# EAGLE library part DECADE-H1102NL (library DECADE-libraries)
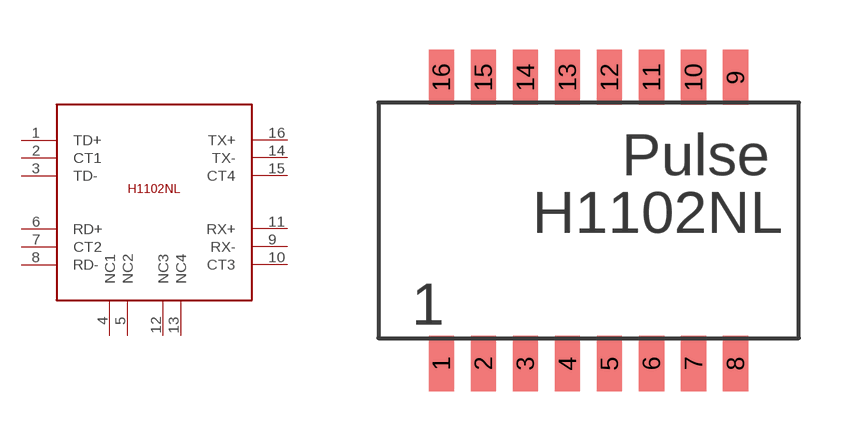
[diagram p28: symbol with the pads of DECADE-H1102NL; footprint DECADE-H1102NL]

Designator prefix -

## DECADE-H1102NL  [DECADE-H1102NL]
1  TD+
2  CT1
3  TD-
4  NC1
5  NC2
6  RD+
7  CT2
8  RD-
9  RX-
10  CT3
11  RX+
12  NC3
13  NC4
14  TX-
15  CT4
16  TX+

## Footprint DECADE-H1102NL (pad centres in mm)
smd 0.76 x 1.67: 1 1.9,-0.77; 2 3.17,-0.77; 3 4.44,-0.77; 4 5.71,-0.77; 5 6.98,-0.77; 6 8.25,-0.77; 7 9.52,-0.77; 8 10.79,-0.77; 9 10.79,7.87; 10 9.52,7.87; 11 8.25,7.87; 12 6.98,7.87; 13 5.71,7.87; 14 4.44,7.87; 15 3.17,7.87; 16 1.9,7.87